# EAGLE library part LEA-6T (library Lysenko_Eagle_Lib)
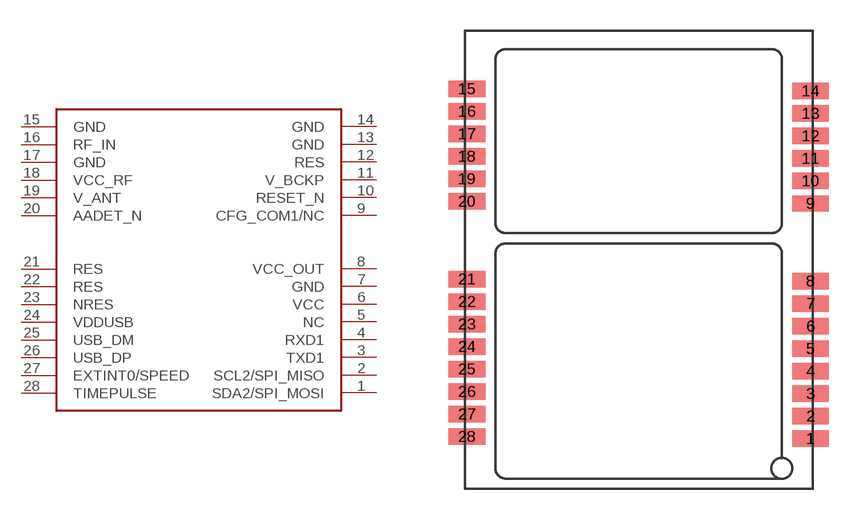
[diagram p15: symbol with the pads of LEA-6T; footprint LEA-6T]

Designator prefix -

## LEA-6T  [LEA-6T]
1  SDA2/SPI_MOSI
2  SCL2/SPI_MISO
3  TXD1
4  RXD1
5  NC
6  VCC
7  GND
8  VCC_OUT
9  CFG_COM1/NC
10  RESET_N
11  V_BCKP
12  RES
13  GND
14  GND
15  GND
16  RF_IN
17  GND
18  VCC_RF
19  V_ANT
20  AADET_N
21  RES
22  RES
23  NRES
24  VDDUSB
25  USB_DM
26  USB_DP
27  EXTINT0/SPEED
28  TIMEPULSE

## Footprint LEA-6T (pad centres in mm)
smd 1.8 x 0.8: 1 16.9,2.45; 2 16.9,3.55; 3 16.9,4.65; 4 16.9,5.75; 5 16.9,6.85; 6 16.9,7.95; 7 16.9,9.05; 8 16.9,10.15; 9 16.9,13.95; 10 16.9,15.05; 11 16.9,16.15; 12 16.9,17.25; 13 16.9,18.35; 14 16.9,19.45; 15 0.1,19.55; 16 0.1,18.45; 17 0.1,17.35; 18 0.1,16.25; 19 0.1,15.15; 20 0.1,14.05; 21 0.1,10.25; 22 0.1,9.15; 23 0.1,8.05; 24 0.1,6.95; 25 0.1,5.85; 26 0.1,4.75; 27 0.1,3.65; 28 0.1,2.55